# Altium schematic symbol library Header-1X4.Schlib: 1 symbol
Pins are listed as number, name and electrical type; pins without a type are passive.

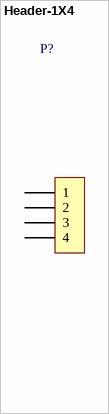
[diagram p0: symbol Header-1X4]

## Header-1X4
designator P?
Header-1X4
pins: 1, 2, 3, 4